# Altium schematic symbol library SSP6206.SchLib: 1 symbol
Pins are listed as number, name and electrical type; pins without a type are passive.

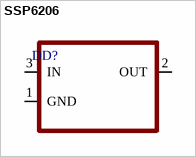
[diagram p0: symbol SSP6206]

## SSP6206
designator DD?
pins: 1 GND, 2 OUT, 3 IN